# EAGLE library part CC2530 (library IC_Wireless-RF)
2.4-GHz Bluetooth® low energy System-on-Chip Datasheet <https://www.ti.com/lit/ds/symlink/cc2540.pdf?ts=1606020330970>
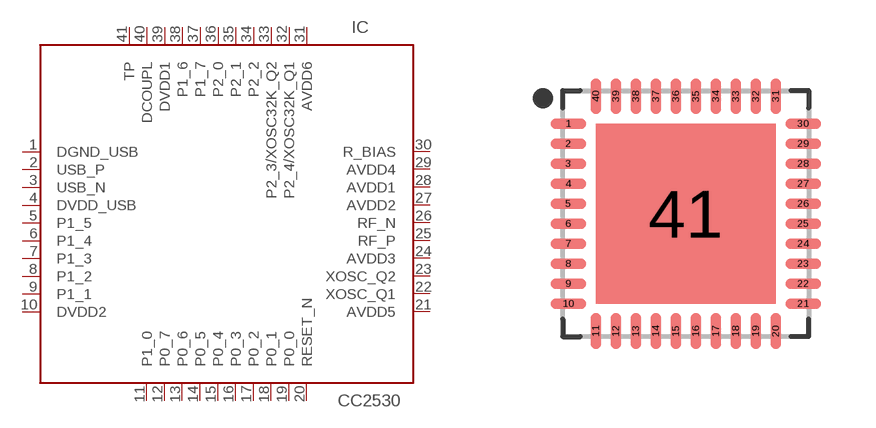
[diagram p10: symbol with the pads of QFN50P600X600X100-41T450N; footprint QFN50P600X600X100-41T450N]

Designator prefix IC

## CC2530 (CATEGORY: INTERFACE IC; DESCRIPTION: RF Microcontrollers - MCU RF Bluetooth SMART SOC with USB BLE; MANUFACTURER: Texas Instruments; MPN: CC2540F256RHAR; OPERATING_TEMPERATURE: -40C to 85C; ROHS_COMPLIANT: COMPLIANT; SERIES: CC2540; SUB_CATEGORY: Wireless & RF Integrated Circuits; TYPE: RF Microcontrollers - MCU; VALUE: CC2540F256)  [QFN50P600X600X100-41T450N]
1  DGND_USB
2  USB_P
3  USB_N
4  DVDD_USB  pwr
5  P1_5
6  P1_4
7  P1_3
8  P1_2
9  P1_1
10  DVDD2  pwr
11  P1_0
12  P0_7
13  P0_6
14  P0_5
15  P0_4
16  P0_3
17  P0_2
18  P0_1
19  P0_0
20  RESET_N  in
21  AVDD5  pwr
22  XOSC_Q1
23  XOSC_Q2
24  AVDD3  pwr
25  RF_P
26  RF_N
27  AVDD2  pwr
28  AVDD1  pwr
29  AVDD4  pwr
30  R_BIAS
31  AVDD6  pwr
32  P2_4/XOSC32K_Q1
33  P2_3/XOSC32K_Q2
34  P2_2
35  P2_1
36  P2_0
37  P1_7
38  P1_6
39  DVDD1  pwr
40  DCOUPL  pwr
41  TP

## Footprint QFN50P600X600X100-41T450N (pad centres in mm)
40-QFN, 0.50 mm pitch, 6.00 X 6.00 X 1.00 mm body, 4.50 X 4.50 mm thermal pad 40-pin QFN package with 0.50 mm pitch with body size 6.00 X 6.00 X 1.00 mm and thermal pad size 4.50 X 4.50 mm
smd 0.896 x 0.264: 1 -2.937,2.25; 2 -2.937,1.75; 3 -2.937,1.25; 4 -2.937,0.75; 5 -2.937,0.25; 6 -2.937,-0.25; 7 -2.937,-0.75; 8 -2.937,-1.25; 9 -2.937,-1.75; 10 -2.937,-2.25; 21 2.937,-2.25; 22 2.937,-1.75; 23 2.937,-1.25; 24 2.937,-0.75; 25 2.937,-0.25; 26 2.937,0.25; 27 2.937,0.75; 28 2.937,1.25; 29 2.937,1.75; 30 2.937,2.25
smd 0.264 x 0.896: 11 -2.25,-2.937; 12 -1.75,-2.937; 13 -1.25,-2.937; 14 -0.75,-2.937; 15 -0.25,-2.937; 16 0.25,-2.937; 17 0.75,-2.937; 18 1.25,-2.937; 19 1.75,-2.937; 20 2.25,-2.937; 31 2.25,2.937; 32 1.75,2.937; 33 1.25,2.937; 34 0.75,2.937; 35 0.25,2.937; 36 -0.25,2.937; 37 -0.75,2.937; 38 -1.25,2.937; 39 -1.75,2.937; 40 -2.25,2.937
smd 4.5 x 4.5: 41 0,0